# Altium schematic symbol library ws2816a-2121.SchLib: 1 symbol
Pins are listed as number, name and electrical type; pins without a type are passive.

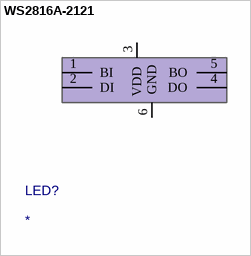
[diagram p0: symbol WS2816A-2121]

## WS2816A-2121
designator LED?
Manufacturer_Part_Number: WS2816A-2121
footprint ws2816a-2121
pins: 1 BI, 2 DI, 3 VDD, 4 DO, 5 BO, 6 GND